# Altium footprint library Omron_B3F-4055.PcbLib: 2 footprints
Each footprint in its own frame and in the unit in brackets; x right, y up, seen from the top. Pads: shape width x height; smd on the part's side, far side on the other; paste and mask are expansions set on the pad; w line width, h text height; cw(c..) or ccw(c..) is an arc to the next point about the centre after c.
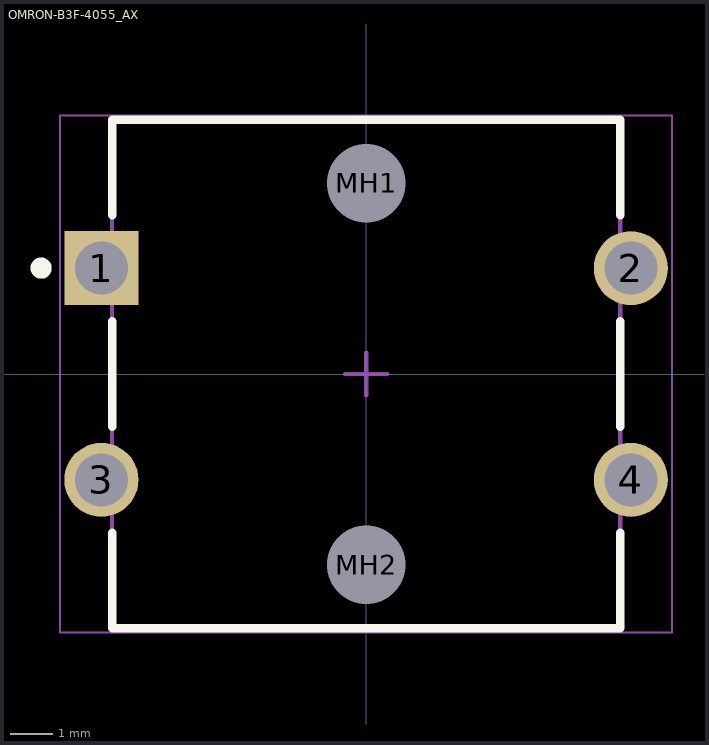
[diagram p0: the footprints below, top view; thin cyan lines are the x and y axes]

## OMRON-B3F-4055_AX [mm] "OMRON-B3F-4055"
pads (6):
  rect 1.75x1.75 hole 1.25: 1(-6.25,2.5)
  round 1.75 hole 1.25: 2(6.25,2.5) 3(-6.25,-2.5) 4(6.25,-2.5)
  round 1.55 hole 1.85 unplated: MH1(0,4.5) MH2(0,-4.5)
Top Overlay:
  circle w0.25: c-7.675,2.5 r0.125
  lines w0.2: -6,-3.75 -6,-6 6,-6 6,-3.75 ; -6,-1.25 -6,1.25 ; -6,3.75 -6,6 6,6 6,3.75 ; 6,-1.25 6,1.25
Mechanical 13:
  lines w0.1: -6,-6 6,-6 6,6 -6,6 -6,-6
Mechanical 15:
  lines w0.05: -7.225,-6.1 7.225,-6.1 7.225,6.1 -7.225,6.1 -7.225,-6.1
  lines w0.1: -0.5,0 0.5,0 ; 0,-0.5 0,0.5
3D body "OMRON B3F 12mm TACT SWITCH.STEP": height 6.9, standoff -3.7, extent -7,-6 7,6

## PCBComponent_1 [mm]